# Altium integrated library Vishay Sprague Tantalum Chip Capacitor.IntLib: 116 symbols (part 1 of 2)
Pins are listed as number, name and electrical type; pins without a type are passive.

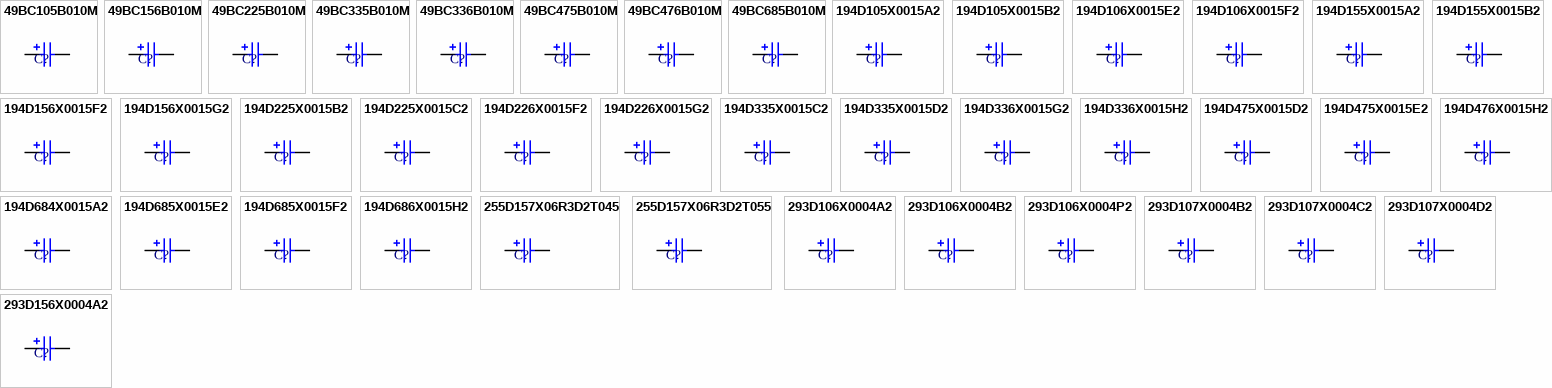
[diagram p0: symbols 49BC105B010M to 293D156X0004A2]

## 49BC105B010M
designator C?
Conformal Coated Solid Tantalum Chip Capacitor: 1.0uF, 20% Tolerance, 10 WVDC @ -55°C to +85°C, Surge = 13V; Note: See Data Sheet for full range of components; Published: 19-Mar-2004; DatasheetDocument: 05-Jul-2002; PackageReference: 49BC-B; Publisher: Altium Limited; ComponentLink1Description: Manufacturer Link; ComponentLink1URL: http://www.vishay.com/; Value: 1.0uF
footprint 49BC-B (Chip Capacitor; Body 2.54 x 1.27 mm (LxW typ))
simulation model CAP (Capacitor)
signal-integrity model 49BC105B010M
pins: 1, 2
1 alternate drawing of the same symbol

## 49BC156B010M
designator C?
Conformal Coated Solid Tantalum Chip Capacitor: 15uF, 20% Tolerance, 10 WVDC @ -55°C to +85°C, Surge = 13V; Note: See Data Sheet for full range of components; Published: 19-Mar-2004; DatasheetDocument: 05-Jul-2002; PackageReference: 49BC-H; Publisher: Altium Limited; ComponentLink1Description: Manufacturer Link; ComponentLink1URL: http://www.vishay.com/; Value: 15uF
footprint 49BC-H (Chip Capacitor; Body 5.59 x 3.43 mm (LxW typ))
simulation model CAP (Capacitor)
signal-integrity model 49BC156B010M
pins: 1, 2
1 alternate drawing of the same symbol

## 49BC225B010M
designator C?
Conformal Coated Solid Tantalum Chip Capacitor: 2.2uF, 20% Tolerance, 10 WVDC @ -55°C to +85°C, Surge = 13V; Note: See Data Sheet for full range of components; Published: 19-Mar-2004; DatasheetDocument: 05-Jul-2002; PackageReference: 49BC-L; Publisher: Altium Limited; ComponentLink1Description: Manufacturer Link; ComponentLink1URL: http://www.vishay.com/; Value: 2.2uF
footprint 49BC-L (Chip Capacitor; Body 3.81 x 1.27 mm (LxW typ))
simulation model CAP (Capacitor)
signal-integrity model 49BC225B010M
pins: 1, 2
1 alternate drawing of the same symbol

## 49BC335B010M
designator C?
Conformal Coated Solid Tantalum Chip Capacitor: 3.3uF, 20% Tolerance, 10 WVDC @ -55°C to +85°C, Surge = 13V; Note: See Data Sheet for full range of components; Published: 19-Mar-2004; DatasheetDocument: 05-Jul-2002; PackageReference: 49BC-U; Publisher: Altium Limited; ComponentLink1Description: Manufacturer Link; ComponentLink1URL: http://www.vishay.com/; Value: 3.3uF
footprint 49BC-U (Chip Capacitor; Body 5.08 x 1.27 mm (LxW typ))
simulation model CAP (Capacitor)
signal-integrity model 49BC335B010M
pins: 1, 2
1 alternate drawing of the same symbol

## 49BC336B010M
designator C?
Conformal Coated Solid Tantalum Chip Capacitor: 33uF, 20% Tolerance, 10 WVDC @ -55°C to +85°C, Surge = 13V; Note: See Data Sheet for full range of components; Published: 19-Mar-2004; DatasheetDocument: 05-Jul-2002; PackageReference: 49BC-I; Publisher: Altium Limited; ComponentLink1Description: Manufacturer Link; ComponentLink1URL: http://www.vishay.com/; Value: 33uF
footprint 49BC-I (Chip Capacitor; Body 6.73 x 2.79 mm (LxW typ))
simulation model CAP (Capacitor)
signal-integrity model 49BC336B010M
pins: 1, 2
1 alternate drawing of the same symbol

## 49BC475B010M
designator C?
Conformal Coated Solid Tantalum Chip Capacitor: 4.7uF, 20% Tolerance, 10 WVDC @ -55°C to +85°C, Surge = 13V; Note: See Data Sheet for full range of components; Published: 19-Mar-2004; DatasheetDocument: 05-Jul-2002; PackageReference: 49BC-E; Publisher: Altium Limited; ComponentLink1Description: Manufacturer Link; ComponentLink1URL: http://www.vishay.com/; Value: 4.7uF
footprint 49BC-E (Chip Capacitor; Body 3.81 x 2.54 mm (LxW typ))
simulation model CAP (Capacitor)
signal-integrity model 49BC475B010M
pins: 1, 2
1 alternate drawing of the same symbol

## 49BC476B010M
designator C?
Conformal Coated Solid Tantalum Chip Capacitor: 47uF, 20% Tolerance, 10 WVDC @ -55°C to +85°C, Surge = 13V; Note: See Data Sheet for full range of components; Published: 19-Mar-2004; DatasheetDocument: 05-Jul-2002; PackageReference: 49BC-P; Publisher: Altium Limited; ComponentLink1Description: Manufacturer Link; ComponentLink1URL: http://www.vishay.com/; Value: 47uF
footprint 49BC-P (Chip Capacitor; Body 7.24 x 3.81 mm (LxW typ))
simulation model CAP (Capacitor)
signal-integrity model 49BC476B010M
pins: 1, 2
1 alternate drawing of the same symbol

## 49BC685B010M
designator C?
Conformal Coated Solid Tantalum Chip Capacitor: 6.8uF, 20% Tolerance, 10 WVDC @ -55°C to +85°C, Surge = 13V; Note: See Data Sheet for full range of components; Published: 19-Mar-2004; DatasheetDocument: 05-Jul-2002; PackageReference: 49BC-C; Publisher: Altium Limited; ComponentLink1Description: Manufacturer Link; ComponentLink1URL: http://www.vishay.com/; Value: 6.8uF
footprint 49BC-C (Chip Capacitor; Body 5.08 x 2.54 mm (LxW typ))
simulation model CAP (Capacitor)
signal-integrity model 49BC685B010M
pins: 1, 2
1 alternate drawing of the same symbol

## 194D105X0015A2
designator C?
Midget Conformal Coated Solid Tantalum Chip Capacitor: 1.0uF, 20% Tolerance, 15 WVDC @ +85°C, Surge = 20V; Note: See Data Sheet for full range of components; Published: 19-Mar-2004; DatasheetDocument: 05-Jul-2002; PackageReference: A; Publisher: Altium Limited; ComponentLink1Description: Manufacturer Link; ComponentLink1URL: http://www.vishay.com/; ComponentLink2Description: Datasheet; ComponentLink2URL: http://www.vishay.com/docs/40000/194d.pdf; Value: 1.0uF
footprint A (Chip Capacitor; Body 2.54 x 1.27 mm (LxW typ))
simulation model CAP (Capacitor)
signal-integrity model 194D105X0015A2
pins: 1, 2
1 alternate drawing of the same symbol

## 194D105X0015B2
designator C?
Midget Conformal Coated Solid Tantalum Chip Capacitor: 1.0uF, 20% Tolerance, 15 WVDC @ +85°C, Surge = 20V; Note: See Data Sheet for full range of components; Published: 19-Mar-2004; DatasheetDocument: 05-Jul-2002; PackageReference: B; Publisher: Altium Limited; ComponentLink1Description: Manufacturer Link; ComponentLink1URL: http://www.vishay.com/; ComponentLink2Description: Datasheet; ComponentLink2URL: http://www.vishay.com/docs/40000/194d.pdf; Value: 1.0uF
footprint B (Chip Capacitor; Body 3.81 x 1.27 mm (LxW typ))
simulation model CAP (Capacitor)
signal-integrity model 194D105X0015B2
pins: 1, 2
1 alternate drawing of the same symbol

## 194D106X0015E2
designator C?
Midget Conformal Coated Solid Tantalum Chip Capacitor: 10uF, 20% Tolerance, 15 WVDC @ +85°C, Surge = 20V; Note: See Data Sheet for full range of components; Published: 19-Mar-2004; DatasheetDocument: 05-Jul-2002; PackageReference: E; Publisher: Altium Limited; ComponentLink1Description: Manufacturer Link; ComponentLink1URL: http://www.vishay.com/; ComponentLink2Description: Datasheet; ComponentLink2URL: http://www.vishay.com/docs/40000/194d.pdf; Value: 10uF
footprint E (Chip Capacitor; Body 5.08 x 2.54 mm (LxW typ))
simulation model CAP (Capacitor)
signal-integrity model 194D106X0015E2
pins: 1, 2
1 alternate drawing of the same symbol

## 194D106X0015F2
designator C?
Midget Conformal Coated Solid Tantalum Chip Capacitor: 10uF, 20% Tolerance, 15 WVDC @ +85°C, Surge = 20V; Note: See Data Sheet for full range of components; Published: 19-Mar-2004; DatasheetDocument: 05-Jul-2002; PackageReference: F; Publisher: Altium Limited; ComponentLink1Description: Manufacturer Link; ComponentLink1URL: http://www.vishay.com/; ComponentLink2Description: Datasheet; ComponentLink2URL: http://www.vishay.com/docs/40000/194d.pdf; Value: 10uF
footprint F (Chip Capacitor; Body 5.59 x 3.43 mm (LxW typ))
simulation model CAP (Capacitor)
signal-integrity model 194D106X0015F2
pins: 1, 2
1 alternate drawing of the same symbol

## 194D155X0015A2
designator C?
Midget Conformal Coated Solid Tantalum Chip Capacitor: 1.5uF, 20% Tolerance, 15 WVDC @ +85°C, Surge = 20V; Note: See Data Sheet for full range of components; Published: 19-Mar-2004; DatasheetDocument: 05-Jul-2002; PackageReference: A; Publisher: Altium Limited; ComponentLink1Description: Manufacturer Link; ComponentLink1URL: http://www.vishay.com/; ComponentLink2Description: Datasheet; ComponentLink2URL: http://www.vishay.com/docs/40000/194d.pdf; Value: 1.5uF
footprint A (Chip Capacitor; Body 2.54 x 1.27 mm (LxW typ))
simulation model CAP (Capacitor)
signal-integrity model 194D155X0015A2
pins: 1, 2
1 alternate drawing of the same symbol

## 194D155X0015B2
designator C?
Midget Conformal Coated Solid Tantalum Chip Capacitor: 1.5uF, 20% Tolerance, 15 WVDC @ +85°C, Surge = 20V; Note: See Data Sheet for full range of components; Published: 19-Mar-2004; DatasheetDocument: 05-Jul-2002; PackageReference: B; Publisher: Altium Limited; ComponentLink1Description: Manufacturer Link; ComponentLink1URL: http://www.vishay.com/; ComponentLink2Description: Datasheet; ComponentLink2URL: http://www.vishay.com/docs/40000/194d.pdf; Value: 1.5uF
footprint B (Chip Capacitor; Body 3.81 x 1.27 mm (LxW typ))
simulation model CAP (Capacitor)
signal-integrity model 194D155X0015B2
pins: 1, 2
1 alternate drawing of the same symbol

## 194D156X0015F2
designator C?
Midget Conformal Coated Solid Tantalum Chip Capacitor: 15uF, 20% Tolerance, 15 WVDC @ +85°C, Surge = 20V; Note: See Data Sheet for full range of components; Published: 19-Mar-2004; DatasheetDocument: 05-Jul-2002; PackageReference: F; Publisher: Altium Limited; ComponentLink1Description: Manufacturer Link; ComponentLink1URL: http://www.vishay.com/; ComponentLink2Description: Datasheet; ComponentLink2URL: http://www.vishay.com/docs/40000/194d.pdf; Value: 15uF
footprint F (Chip Capacitor; Body 5.59 x 3.43 mm (LxW typ))
simulation model CAP (Capacitor)
signal-integrity model 194D156X0015F2
pins: 1, 2
1 alternate drawing of the same symbol

## 194D156X0015G2
designator C?
Midget Conformal Coated Solid Tantalum Chip Capacitor: 15uF, 20% Tolerance, 15 WVDC @ +85°C, Surge = 20V; Note: See Data Sheet for full range of components; Published: 19-Mar-2004; DatasheetDocument: 05-Jul-2002; PackageReference: G; Publisher: Altium Limited; ComponentLink1Description: Manufacturer Link; ComponentLink1URL: http://www.vishay.com/; ComponentLink2Description: Datasheet; ComponentLink2URL: http://www.vishay.com/docs/40000/194d.pdf; Value: 15uF
footprint G (Chip Capacitor; Body 6.73 x 2.79 mm (LxW typ))
simulation model CAP (Capacitor)
signal-integrity model 194D156X0015G2
pins: 1, 2
1 alternate drawing of the same symbol

## 194D225X0015B2
designator C?
Midget Conformal Coated Solid Tantalum Chip Capacitor: 2.2uF, 20% Tolerance, 15 WVDC @ +85°C, Surge = 20V; Note: See Data Sheet for full range of components; Published: 19-Mar-2004; DatasheetDocument: 05-Jul-2002; PackageReference: B; Publisher: Altium Limited; ComponentLink1Description: Manufacturer Link; ComponentLink1URL: http://www.vishay.com/; ComponentLink2Description: Datasheet; ComponentLink2URL: http://www.vishay.com/docs/40000/194d.pdf; Value: 2.2uF
footprint B (Chip Capacitor; Body 3.81 x 1.27 mm (LxW typ))
simulation model CAP (Capacitor)
signal-integrity model 194D225X0015B2
pins: 1, 2
1 alternate drawing of the same symbol

## 194D225X0015C2
designator C?
Midget Conformal Coated Solid Tantalum Chip Capacitor: 2.2uF, 20% Tolerance, 15 WVDC @ +85°C, Surge = 20V; Note: See Data Sheet for full range of components; Published: 19-Mar-2004; DatasheetDocument: 05-Jul-2002; PackageReference: C; Publisher: Altium Limited; ComponentLink1Description: Manufacturer Link; ComponentLink1URL: http://www.vishay.com/; ComponentLink2Description: Datasheet; ComponentLink2URL: http://www.vishay.com/docs/40000/194d.pdf; Value: 2.2uF
footprint C (Chip Capacitor; Body 5.08 x 1.27 mm (LxW typ))
simulation model CAP (Capacitor)
signal-integrity model 194D225X0015C2
pins: 1, 2
1 alternate drawing of the same symbol

## 194D226X0015F2
designator C?
Midget Conformal Coated Solid Tantalum Chip Capacitor: 22uF, 20% Tolerance, 15 WVDC @ +85°C, Surge = 20V; Note: See Data Sheet for full range of components; Published: 19-Mar-2004; DatasheetDocument: 05-Jul-2002; PackageReference: F; Publisher: Altium Limited; ComponentLink1Description: Manufacturer Link; ComponentLink1URL: http://www.vishay.com/; ComponentLink2Description: Datasheet; ComponentLink2URL: http://www.vishay.com/docs/40000/194d.pdf; Value: 22uF
footprint F (Chip Capacitor; Body 5.59 x 3.43 mm (LxW typ))
simulation model CAP (Capacitor)
signal-integrity model 194D226X0015F2
pins: 1, 2
1 alternate drawing of the same symbol

## 194D226X0015G2
designator C?
Midget Conformal Coated Solid Tantalum Chip Capacitor: 22uF, 20% Tolerance, 15 WVDC @ +85°C, Surge = 20V; Note: See Data Sheet for full range of components; Published: 19-Mar-2004; DatasheetDocument: 05-Jul-2002; PackageReference: G; Publisher: Altium Limited; ComponentLink1Description: Manufacturer Link; ComponentLink1URL: http://www.vishay.com/; ComponentLink2Description: Datasheet; ComponentLink2URL: http://www.vishay.com/docs/40000/194d.pdf; Value: 22uF
footprint G (Chip Capacitor; Body 6.73 x 2.79 mm (LxW typ))
simulation model CAP (Capacitor)
signal-integrity model 194D226X0015G2
pins: 1, 2
1 alternate drawing of the same symbol

## 194D335X0015C2
designator C?
Midget Conformal Coated Solid Tantalum Chip Capacitor: 3.3uF, 20% Tolerance, 15 WVDC @ +85°C, Surge = 20V; Note: See Data Sheet for full range of components; Published: 19-Mar-2004; DatasheetDocument: 05-Jul-2002; PackageReference: C; Publisher: Altium Limited; ComponentLink1Description: Manufacturer Link; ComponentLink1URL: http://www.vishay.com/; ComponentLink2Description: Datasheet; ComponentLink2URL: http://www.vishay.com/docs/40000/194d.pdf; Value: 3.3uF
footprint C (Chip Capacitor; Body 5.08 x 1.27 mm (LxW typ))
simulation model CAP (Capacitor)
signal-integrity model 194D335X0015C2
pins: 1, 2
1 alternate drawing of the same symbol

## 194D335X0015D2
designator C?
Midget Conformal Coated Solid Tantalum Chip Capacitor: 3.3uF, 20% Tolerance, 15 WVDC @ +85°C, Surge = 20V; Note: See Data Sheet for full range of components; Published: 19-Mar-2004; DatasheetDocument: 05-Jul-2002; PackageReference: D; Publisher: Altium Limited; ComponentLink1Description: Manufacturer Link; ComponentLink1URL: http://www.vishay.com/; ComponentLink2Description: Datasheet; ComponentLink2URL: http://www.vishay.com/docs/40000/194d.pdf; Value: 3.3uF
footprint D (Chip Capacitor; Body 3.81 x 2.54 mm (LxW typ))
simulation model CAP (Capacitor)
signal-integrity model 194D335X0015D2
pins: 1, 2
1 alternate drawing of the same symbol

## 194D336X0015G2
designator C?
Midget Conformal Coated Solid Tantalum Chip Capacitor: 33uF, 20% Tolerance, 15 WVDC @ +85°C, Surge = 20V; Note: See Data Sheet for full range of components; Published: 19-Mar-2004; DatasheetDocument: 05-Jul-2002; PackageReference: G; Publisher: Altium Limited; ComponentLink1Description: Manufacturer Link; ComponentLink1URL: http://www.vishay.com/; ComponentLink2Description: Datasheet; ComponentLink2URL: http://www.vishay.com/docs/40000/194d.pdf; Value: 33uF
footprint G (Chip Capacitor; Body 6.73 x 2.79 mm (LxW typ))
simulation model CAP (Capacitor)
signal-integrity model 194D336X0015G2
pins: 1, 2
1 alternate drawing of the same symbol

## 194D336X0015H2
designator C?
Midget Conformal Coated Solid Tantalum Chip Capacitor: 33uF, 20% Tolerance, 15 WVDC @ +85°C, Surge = 20V; Note: See Data Sheet for full range of components; Published: 19-Mar-2004; DatasheetDocument: 05-Jul-2002; PackageReference: H; Publisher: Altium Limited; ComponentLink1Description: Manufacturer Link; ComponentLink1URL: http://www.vishay.com/; ComponentLink2Description: Datasheet; ComponentLink2URL: http://www.vishay.com/docs/40000/194d.pdf; Value: 33uF
footprint H (Chip Capacitor; Body 7.24 x 3.81 mm (LxW typ))
simulation model CAP (Capacitor)
signal-integrity model 194D336X0015H2
pins: 1, 2
1 alternate drawing of the same symbol

## 194D475X0015D2
designator C?
Midget Conformal Coated Solid Tantalum Chip Capacitor: 4.7uF, 20% Tolerance, 15 WVDC @ +85°C, Surge = 20V; Note: See Data Sheet for full range of components; Published: 19-Mar-2004; DatasheetDocument: 05-Jul-2002; PackageReference: D; Publisher: Altium Limited; ComponentLink1Description: Manufacturer Link; ComponentLink1URL: http://www.vishay.com/; ComponentLink2Description: Datasheet; ComponentLink2URL: http://www.vishay.com/docs/40000/194d.pdf; Value: 4.7uF
footprint D (Chip Capacitor; Body 3.81 x 2.54 mm (LxW typ))
simulation model CAP (Capacitor)
signal-integrity model 194D475X0015D2
pins: 1, 2
1 alternate drawing of the same symbol

## 194D475X0015E2
designator C?
Midget Conformal Coated Solid Tantalum Chip Capacitor: 4.7uF, 20% Tolerance, 15 WVDC @ +85°C, Surge = 20V; Note: See Data Sheet for full range of components; Published: 19-Mar-2004; DatasheetDocument: 05-Jul-2002; PackageReference: E; Publisher: Altium Limited; ComponentLink1Description: Manufacturer Link; ComponentLink1URL: http://www.vishay.com/; ComponentLink2Description: Datasheet; ComponentLink2URL: http://www.vishay.com/docs/40000/194d.pdf; Value: 4.7uF
footprint E (Chip Capacitor; Body 5.08 x 2.54 mm (LxW typ))
simulation model CAP (Capacitor)
signal-integrity model 194D475X0015E2
pins: 1, 2
1 alternate drawing of the same symbol

## 194D476X0015H2
designator C?
Midget Conformal Coated Solid Tantalum Chip Capacitor: 47uF, 20% Tolerance, 15 WVDC @ +85°C, Surge = 20V; Note: See Data Sheet for full range of components; Published: 19-Mar-2004; DatasheetDocument: 05-Jul-2002; PackageReference: H; Publisher: Altium Limited; ComponentLink1Description: Manufacturer Link; ComponentLink1URL: http://www.vishay.com/; ComponentLink2Description: Datasheet; ComponentLink2URL: http://www.vishay.com/docs/40000/194d.pdf; Value: 47uF
footprint H (Chip Capacitor; Body 7.24 x 3.81 mm (LxW typ))
simulation model CAP (Capacitor)
signal-integrity model 194D476X0015H2
pins: 1, 2
1 alternate drawing of the same symbol

## 194D684X0015A2
designator C?
Midget Conformal Coated Solid Tantalum Chip Capacitor: 0.68uF, 20% Tolerance, 15 WVDC @ +85°C, Surge = 20V; Note: See Data Sheet for full range of components; Published: 19-Mar-2004; DatasheetDocument: 05-Jul-2002; PackageReference: A; Publisher: Altium Limited; ComponentLink1Description: Manufacturer Link; ComponentLink1URL: http://www.vishay.com/; ComponentLink2Description: Datasheet; ComponentLink2URL: http://www.vishay.com/docs/40000/194d.pdf; Value: 0.68uF
footprint A (Chip Capacitor; Body 2.54 x 1.27 mm (LxW typ))
simulation model CAP (Capacitor)
signal-integrity model 194D684X0015A2
pins: 1, 2
1 alternate drawing of the same symbol

## 194D685X0015E2
designator C?
Midget Conformal Coated Solid Tantalum Chip Capacitor: 6.8uF, 20% Tolerance, 15 WVDC @ +85°C, Surge = 20V; Note: See Data Sheet for full range of components; Published: 19-Mar-2004; DatasheetDocument: 05-Jul-2002; PackageReference: E; Publisher: Altium Limited; ComponentLink1Description: Manufacturer Link; ComponentLink1URL: http://www.vishay.com/; ComponentLink2Description: Datasheet; ComponentLink2URL: http://www.vishay.com/docs/40000/194d.pdf; Value: 6.8uF
footprint E (Chip Capacitor; Body 5.08 x 2.54 mm (LxW typ))
simulation model CAP (Capacitor)
signal-integrity model 194D685X0015E2
pins: 1, 2
1 alternate drawing of the same symbol

## 194D685X0015F2
designator C?
Midget Conformal Coated Solid Tantalum Chip Capacitor: 6.8uF, 20% Tolerance, 15 WVDC @ +85°C, Surge = 20V; Note: See Data Sheet for full range of components; Published: 19-Mar-2004; DatasheetDocument: 05-Jul-2002; PackageReference: F; Publisher: Altium Limited; ComponentLink1Description: Manufacturer Link; ComponentLink1URL: http://www.vishay.com/; ComponentLink2Description: Datasheet; ComponentLink2URL: http://www.vishay.com/docs/40000/194d.pdf; Value: 6.8uF
footprint F (Chip Capacitor; Body 5.59 x 3.43 mm (LxW typ))
simulation model CAP (Capacitor)
signal-integrity model 194D685X0015F2
pins: 1, 2
1 alternate drawing of the same symbol

## 194D686X0015H2
designator C?
Midget Conformal Coated Solid Tantalum Chip Capacitor: 68uF, 20% Tolerance, 15 WVDC @ +85°C, Surge = 20V; Note: See Data Sheet for full range of components; Published: 19-Mar-2004; DatasheetDocument: 05-Jul-2002; PackageReference: H; Publisher: Altium Limited; ComponentLink1Description: Manufacturer Link; ComponentLink1URL: http://www.vishay.com/; ComponentLink2Description: Datasheet; ComponentLink2URL: http://www.vishay.com/docs/40000/194d.pdf; Value: 68uF
footprint H (Chip Capacitor; Body 7.24 x 3.81 mm (LxW typ))
simulation model CAP (Capacitor)
signal-integrity model 194D686X0015H2
pins: 1, 2
1 alternate drawing of the same symbol

## 255D157X06R3D2T045
designator C?
Organic Polymer, Low ESR, Tantalum Capacitor: 150uF, 20% Tolerance, 6.3 WVDC @ +85°C; Note: See Data Sheet for full range of components; Published: 19-Mar-2004; DatasheetDocument: 04-Feb-2003; PackageReference: 7343; Publisher: Altium Limited; Code_JEITA: 7343; ComponentLink1Description: Manufacturer Link; ComponentLink1URL: http://www.vishay.com/; ComponentLink2Description: Datasheet; ComponentLink2URL: http://www.vishay.com/docs/40052/255d.pdf; Value: 150uF
footprint 7343 (Capacitor, SM Tantalum; Body 7.3 x 4.3 mm (LxW typ))
simulation model CAP (Capacitor)
signal-integrity model 255D157X06R3D2T045
pins: 1, 2
1 alternate drawing of the same symbol

## 255D157X06R3D2T055
designator C?
Organic Polymer, Low ESR, Tantalum Capacitor: 150uF, 20% Tolerance, 6.3 WVDC @ +85°C; Note: See Data Sheet for full range of components; Published: 19-Mar-2004; DatasheetDocument: 04-Feb-2003; PackageReference: 7343; Publisher: Altium Limited; Code_JEITA: 7343; ComponentLink1Description: Manufacturer Link; ComponentLink1URL: http://www.vishay.com/; ComponentLink2Description: Datasheet; ComponentLink2URL: http://www.vishay.com/docs/40052/255d.pdf; Value: 150uF
footprint 7343 (Capacitor, SM Tantalum; Body 7.3 x 4.3 mm (LxW typ))
simulation model CAP (Capacitor)
signal-integrity model 255D157X06R3D2T055
pins: 1, 2
1 alternate drawing of the same symbol

## 293D106X0004A2
designator C?
Tantamount Commercial, Surface Mount Solid Tantalum Chip Capacitor: 10uF, 20% Tolerance, 4 WVDC @ +85°C, Surge = 5.2V; Note: See Data Sheet for full range of components; Published: 19-Mar-2004; DatasheetDocument: 05-Feb-2003; PackageReference: 3216; Publisher: Altium Limited; Code_JEITA: 3216; ComponentLink1Description: Manufacturer Link; ComponentLink1URL: http://www.vishay.com/; ComponentLink2Description: Datasheet; ComponentLink2URL: http://www.vishay.com/docs/40002/293d.pdf; Value: 10uF
footprint 3216 (Capacitor, SM Tantalum; Body 3.2 x 1.6 mm (LxW typ))
simulation model CAP (Capacitor)
signal-integrity model 293D106X0004A2
pins: 1, 2
1 alternate drawing of the same symbol

## 293D106X0004B2
designator C?
Tantamount Commercial, Surface Mount Solid Tantalum Chip Capacitor: 10uF, 20% Tolerance, 4 WVDC @ +85°C, Surge = 5.2V; Note: See Data Sheet for full range of components; Published: 19-Mar-2004; DatasheetDocument: 05-Feb-2003; PackageReference: 3528; Publisher: Altium Limited; Code_JEITA: 3528; ComponentLink1Description: Manufacturer Link; ComponentLink1URL: http://www.vishay.com/; ComponentLink2Description: Datasheet; ComponentLink2URL: http://www.vishay.com/docs/40002/293d.pdf; Value: 10uF
footprint 3528 (Capacitor, SM Tantalum; Body 3.5 x 2.8 mm (LxW typ))
simulation model CAP (Capacitor)
signal-integrity model 293D106X0004B2
pins: 1, 2
1 alternate drawing of the same symbol

## 293D106X0004P2
designator C?
Tantamount Commercial, Surface Mount Solid Tantalum Chip Capacitor: 10uF, 20% Tolerance, 4 WVDC @ +85°C, Surge = 5.2V; Note: See Data Sheet for full range of components; Published: 19-Mar-2004; DatasheetDocument: 05-Feb-2003; PackageReference: 2012; Publisher: Altium Limited; Code_JEITA: 2012; ComponentLink1Description: Manufacturer Link; ComponentLink1URL: http://www.vishay.com/; ComponentLink2Description: Datasheet; ComponentLink2URL: http://www.vishay.com/docs/40002/293d.pdf; Value: 10uF
footprint 2012 (Capacitor, SM Tantalum; Body 2.0 x 1.25 mm (LxW typ))
simulation model CAP (Capacitor)
signal-integrity model 293D106X0004P2
pins: 1, 2
1 alternate drawing of the same symbol

## 293D107X0004B2
designator C?
Tantamount Commercial, Surface Mount Solid Tantalum Chip Capacitor: 100uF, 20% Tolerance, 4 WVDC @ +85°C, Surge = 5.2V; Note: See Data Sheet for full range of components; Published: 19-Mar-2004; DatasheetDocument: 05-Feb-2003; PackageReference: 3528; Publisher: Altium Limited; Code_JEITA: 3528; ComponentLink1Description: Manufacturer Link; ComponentLink1URL: http://www.vishay.com/; ComponentLink2Description: Datasheet; ComponentLink2URL: http://www.vishay.com/docs/40002/293d.pdf; Value: 100uF
footprint 3528 (Capacitor, SM Tantalum; Body 3.5 x 2.8 mm (LxW typ))
simulation model CAP (Capacitor)
signal-integrity model 293D107X0004B2
pins: 1, 2
1 alternate drawing of the same symbol

## 293D107X0004C2
designator C?
Tantamount Commercial, Surface Mount Solid Tantalum Chip Capacitor: 100uF, 20% Tolerance, 4 WVDC @ +85°C, Surge = 5.2V; Note: See Data Sheet for full range of components; Published: 19-Mar-2004; DatasheetDocument: 05-Feb-2003; PackageReference: 6032; Publisher: Altium Limited; Code_JEITA: 6032; ComponentLink1Description: Manufacturer Link; ComponentLink1URL: http://www.vishay.com/; ComponentLink2Description: Datasheet; ComponentLink2URL: http://www.vishay.com/docs/40002/293d.pdf; Value: 100uF
footprint 6032 (Capacitor, SM Tantalum; Body 6.0 x 3.2 mm (LxW typ))
simulation model CAP (Capacitor)
signal-integrity model 293D107X0004C2
pins: 1, 2
1 alternate drawing of the same symbol

## 293D107X0004D2
designator C?
Tantamount Commercial, Surface Mount Solid Tantalum Chip Capacitor: 100uF, 20% Tolerance, 4 WVDC @ +85°C, Surge = 5.2V; Note: See Data Sheet for full range of components; Published: 19-Mar-2004; DatasheetDocument: 05-Feb-2003; PackageReference: 7343; Publisher: Altium Limited; Code_JEITA: 7343; ComponentLink1Description: Manufacturer Link; ComponentLink1URL: http://www.vishay.com/; ComponentLink2Description: Datasheet; ComponentLink2URL: http://www.vishay.com/docs/40002/293d.pdf; Value: 100uF
footprint 7343 (Capacitor, SM Tantalum; Body 7.3 x 4.3 mm (LxW typ))
simulation model CAP (Capacitor)
signal-integrity model 293D107X0004D2
pins: 1, 2
1 alternate drawing of the same symbol

## 293D156X0004A2
designator C?
Tantamount Commercial, Surface Mount Solid Tantalum Chip Capacitor: 15uF, 20% Tolerance, 4 WVDC @ +85°C, Surge = 5.2V; Note: See Data Sheet for full range of components; Published: 19-Mar-2004; DatasheetDocument: 05-Feb-2003; PackageReference: 3216; Publisher: Altium Limited; Code_JEITA: 3216; ComponentLink1Description: Manufacturer Link; ComponentLink1URL: http://www.vishay.com/; ComponentLink2Description: Datasheet; ComponentLink2URL: http://www.vishay.com/docs/40002/293d.pdf; Value: 15uF
footprint 3216 (Capacitor, SM Tantalum; Body 3.2 x 1.6 mm (LxW typ))
simulation model CAP (Capacitor)
signal-integrity model 293D156X0004A2
pins: 1, 2
1 alternate drawing of the same symbol

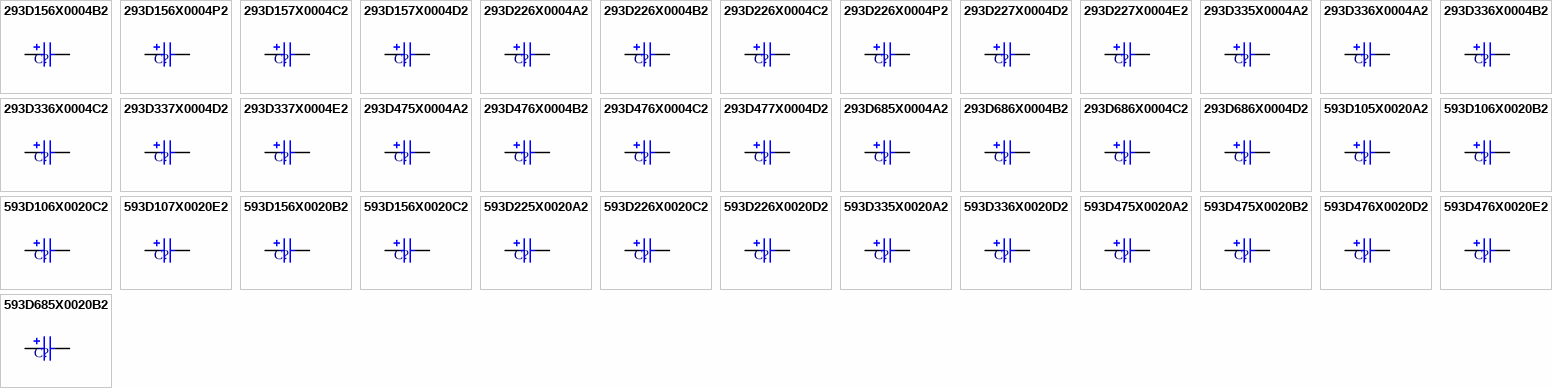
[diagram p1: symbols 293D156X0004B2 to 593D685X0020B2]

## 293D156X0004B2
designator C?
Tantamount Commercial, Surface Mount Solid Tantalum Chip Capacitor: 15uF, 20% Tolerance, 4 WVDC @ +85°C, Surge = 5.2V; Note: See Data Sheet for full range of components; Published: 19-Mar-2004; DatasheetDocument: 05-Feb-2003; PackageReference: 3528; Publisher: Altium Limited; Code_JEITA: 3528; ComponentLink1Description: Manufacturer Link; ComponentLink1URL: http://www.vishay.com/; ComponentLink2Description: Datasheet; ComponentLink2URL: http://www.vishay.com/docs/40002/293d.pdf; Value: 15uF
footprint 3528 (Capacitor, SM Tantalum; Body 3.5 x 2.8 mm (LxW typ))
simulation model CAP (Capacitor)
signal-integrity model 293D156X0004B2
pins: 1, 2
1 alternate drawing of the same symbol

## 293D156X0004P2
designator C?
Tantamount Commercial, Surface Mount Solid Tantalum Chip Capacitor: 15uF, 20% Tolerance, 4 WVDC @ +85°C, Surge = 5.2V; Note: See Data Sheet for full range of components; Published: 19-Mar-2004; DatasheetDocument: 05-Feb-2003; PackageReference: 2012; Publisher: Altium Limited; Code_JEITA: 2012; ComponentLink1Description: Manufacturer Link; ComponentLink1URL: http://www.vishay.com/; ComponentLink2Description: Datasheet; ComponentLink2URL: http://www.vishay.com/docs/40002/293d.pdf; Value: 15uF
footprint 2012 (Capacitor, SM Tantalum; Body 2.0 x 1.25 mm (LxW typ))
simulation model CAP (Capacitor)
signal-integrity model 293D156X0004P2
pins: 1, 2
1 alternate drawing of the same symbol

## 293D157X0004C2
designator C?
Tantamount Commercial, Surface Mount Solid Tantalum Chip Capacitor: 150uF, 20% Tolerance, 4 WVDC @ +85°C, Surge = 5.2V; Note: See Data Sheet for full range of components; Published: 19-Mar-2004; DatasheetDocument: 05-Feb-2003; PackageReference: 6032; Publisher: Altium Limited; Code_JEITA: 6032; ComponentLink1Description: Manufacturer Link; ComponentLink1URL: http://www.vishay.com/; ComponentLink2Description: Datasheet; ComponentLink2URL: http://www.vishay.com/docs/40002/293d.pdf; Value: 150uF
footprint 6032 (Capacitor, SM Tantalum; Body 6.0 x 3.2 mm (LxW typ))
simulation model CAP (Capacitor)
signal-integrity model 293D157X0004C2
pins: 1, 2
1 alternate drawing of the same symbol

## 293D157X0004D2
designator C?
Tantamount Commercial, Surface Mount Solid Tantalum Chip Capacitor: 150uF, 20% Tolerance, 4 WVDC @ +85°C, Surge = 5.2V; Note: See Data Sheet for full range of components; Published: 19-Mar-2004; DatasheetDocument: 05-Feb-2003; PackageReference: 7343; Publisher: Altium Limited; Code_JEITA: 7343; ComponentLink1Description: Manufacturer Link; ComponentLink1URL: http://www.vishay.com/; ComponentLink2Description: Datasheet; ComponentLink2URL: http://www.vishay.com/docs/40002/293d.pdf; Value: 150uF
footprint 7343 (Capacitor, SM Tantalum; Body 7.3 x 4.3 mm (LxW typ))
simulation model CAP (Capacitor)
signal-integrity model 293D157X0004D2
pins: 1, 2
1 alternate drawing of the same symbol

## 293D226X0004A2
designator C?
Tantamount Commercial, Surface Mount Solid Tantalum Chip Capacitor: 22uF, 20% Tolerance, 4 WVDC @ +85°C, Surge = 5.2V; Note: See Data Sheet for full range of components; Published: 19-Mar-2004; DatasheetDocument: 05-Feb-2003; PackageReference: 3216; Publisher: Altium Limited; Code_JEITA: 3216; ComponentLink1Description: Manufacturer Link; ComponentLink1URL: http://www.vishay.com/; ComponentLink2Description: Datasheet; ComponentLink2URL: http://www.vishay.com/docs/40002/293d.pdf; Value: 22uF
footprint 3216 (Capacitor, SM Tantalum; Body 3.2 x 1.6 mm (LxW typ))
simulation model CAP (Capacitor)
signal-integrity model 293D226X0004A2
pins: 1, 2
1 alternate drawing of the same symbol

## 293D226X0004B2
designator C?
Tantamount Commercial, Surface Mount Solid Tantalum Chip Capacitor: 22uF, 20% Tolerance, 4 WVDC @ +85°C, Surge = 5.2V; Note: See Data Sheet for full range of components; Published: 19-Mar-2004; DatasheetDocument: 05-Feb-2003; PackageReference: 3528; Publisher: Altium Limited; Code_JEITA: 3528; ComponentLink1Description: Manufacturer Link; ComponentLink1URL: http://www.vishay.com/; ComponentLink2Description: Datasheet; ComponentLink2URL: http://www.vishay.com/docs/40002/293d.pdf; Value: 22uF
footprint 3528 (Capacitor, SM Tantalum; Body 3.5 x 2.8 mm (LxW typ))
simulation model CAP (Capacitor)
signal-integrity model 293D226X0004B2
pins: 1, 2
1 alternate drawing of the same symbol

## 293D226X0004C2
designator C?
Tantamount Commercial, Surface Mount Solid Tantalum Chip Capacitor: 22uF, 20% Tolerance, 4 WVDC @ +85°C, Surge = 5.2V; Note: See Data Sheet for full range of components; Published: 19-Mar-2004; DatasheetDocument: 05-Feb-2003; PackageReference: 6032; Publisher: Altium Limited; Code_JEITA: 6032; ComponentLink1Description: Manufacturer Link; ComponentLink1URL: http://www.vishay.com/; ComponentLink2Description: Datasheet; ComponentLink2URL: http://www.vishay.com/docs/40002/293d.pdf; Value: 22uF
footprint 6032 (Capacitor, SM Tantalum; Body 6.0 x 3.2 mm (LxW typ))
simulation model CAP (Capacitor)
signal-integrity model 293D226X0004C2
pins: 1, 2
1 alternate drawing of the same symbol

## 293D226X0004P2
designator C?
Tantamount Commercial, Surface Mount Solid Tantalum Chip Capacitor: 22uF, 20% Tolerance, 4 WVDC @ +85°C, Surge = 5.2V; Note: See Data Sheet for full range of components; Published: 19-Mar-2004; DatasheetDocument: 05-Feb-2003; PackageReference: 2012; Publisher: Altium Limited; Code_JEITA: 2012; ComponentLink1Description: Manufacturer Link; ComponentLink1URL: http://www.vishay.com/; ComponentLink2Description: Datasheet; ComponentLink2URL: http://www.vishay.com/docs/40002/293d.pdf; Value: 22uF
footprint 2012 (Capacitor, SM Tantalum; Body 2.0 x 1.25 mm (LxW typ))
simulation model CAP (Capacitor)
signal-integrity model 293D226X0004P2
pins: 1, 2
1 alternate drawing of the same symbol

## 293D227X0004D2
designator C?
Tantamount Commercial, Surface Mount Solid Tantalum Chip Capacitor: 220uF, 20% Tolerance, 4 WVDC @ +85°C, Surge = 5.2V; Note: See Data Sheet for full range of components; Published: 19-Mar-2004; DatasheetDocument: 05-Feb-2003; PackageReference: 7343; Publisher: Altium Limited; Code_JEITA: 7343; ComponentLink1Description: Manufacturer Link; ComponentLink1URL: http://www.vishay.com/; ComponentLink2Description: Datasheet; ComponentLink2URL: http://www.vishay.com/docs/40002/293d.pdf; Value: 220uF
footprint 7343 (Capacitor, SM Tantalum; Body 7.3 x 4.3 mm (LxW typ))
simulation model CAP (Capacitor)
signal-integrity model 293D227X0004D2
pins: 1, 2
1 alternate drawing of the same symbol

## 293D227X0004E2
designator C?
Tantamount Commercial, Surface Mount Solid Tantalum Chip Capacitor: 220uF, 20% Tolerance, 4 WVDC @ +85°C, Surge = 5.2V; Note: See Data Sheet for full range of components; Published: 19-Mar-2004; DatasheetDocument: 05-Feb-2003; PackageReference: 7343H; Publisher: Altium Limited; Code_JEITA: 7343H; ComponentLink1Description: Manufacturer Link; ComponentLink1URL: http://www.vishay.com/; ComponentLink2Description: Datasheet; ComponentLink2URL: http://www.vishay.com/docs/40002/293d.pdf; Value: 220uF
footprint 7343H (Capacitor, SM Tantalum; Body 7.3 x 4.3 mm (LxW typ))
simulation model CAP (Capacitor)
signal-integrity model 293D227X0004E2
pins: 1, 2
1 alternate drawing of the same symbol

## 293D335X0004A2
designator C?
Tantamount Commercial, Surface Mount Solid Tantalum Chip Capacitor: 3.3uF, 20% Tolerance, 4 WVDC @ +85°C, Surge = 5.2V; Note: See Data Sheet for full range of components; Published: 19-Mar-2004; DatasheetDocument: 05-Feb-2003; PackageReference: 3216; Publisher: Altium Limited; Code_JEITA: 3216; ComponentLink1Description: Manufacturer Link; ComponentLink1URL: http://www.vishay.com/; ComponentLink2Description: Datasheet; ComponentLink2URL: http://www.vishay.com/docs/40002/293d.pdf; Value: 3.3uF
footprint 3216 (Capacitor, SM Tantalum; Body 3.2 x 1.6 mm (LxW typ))
simulation model CAP (Capacitor)
signal-integrity model 293D335X0004A2
pins: 1, 2
1 alternate drawing of the same symbol

## 293D336X0004A2
designator C?
Tantamount Commercial, Surface Mount Solid Tantalum Chip Capacitor: 33uF, 20% Tolerance, 4 WVDC @ +85°C, Surge = 5.2V; Note: See Data Sheet for full range of components; Published: 19-Mar-2004; DatasheetDocument: 05-Feb-2003; PackageReference: 3216; Publisher: Altium Limited; Code_JEITA: 3216; ComponentLink1Description: Manufacturer Link; ComponentLink1URL: http://www.vishay.com/; ComponentLink2Description: Datasheet; ComponentLink2URL: http://www.vishay.com/docs/40002/293d.pdf; Value: 33uF
footprint 3216 (Capacitor, SM Tantalum; Body 3.2 x 1.6 mm (LxW typ))
simulation model CAP (Capacitor)
signal-integrity model 293D336X0004A2
pins: 1, 2
1 alternate drawing of the same symbol

## 293D336X0004B2
designator C?
Tantamount Commercial, Surface Mount Solid Tantalum Chip Capacitor: 33uF, 20% Tolerance, 4 WVDC @ +85°C, Surge = 5.2V; Note: See Data Sheet for full range of components; Published: 19-Mar-2004; DatasheetDocument: 05-Feb-2003; PackageReference: 3528; Publisher: Altium Limited; Code_JEITA: 3528; ComponentLink1Description: Manufacturer Link; ComponentLink1URL: http://www.vishay.com/; ComponentLink2Description: Datasheet; ComponentLink2URL: http://www.vishay.com/docs/40002/293d.pdf; Value: 33uF
footprint 3528 (Capacitor, SM Tantalum; Body 3.5 x 2.8 mm (LxW typ))
simulation model CAP (Capacitor)
signal-integrity model 293D336X0004B2
pins: 1, 2
1 alternate drawing of the same symbol

## 293D336X0004C2
designator C?
Tantamount Commercial, Surface Mount Solid Tantalum Chip Capacitor: 33uF, 20% Tolerance, 4 WVDC @ +85°C, Surge = 5.2V; Note: See Data Sheet for full range of components; Published: 19-Mar-2004; DatasheetDocument: 05-Feb-2003; PackageReference: 6032; Publisher: Altium Limited; Code_JEITA: 6032; ComponentLink1Description: Manufacturer Link; ComponentLink1URL: http://www.vishay.com/; ComponentLink2Description: Datasheet; ComponentLink2URL: http://www.vishay.com/docs/40002/293d.pdf; Value: 33uF
footprint 6032 (Capacitor, SM Tantalum; Body 6.0 x 3.2 mm (LxW typ))
simulation model CAP (Capacitor)
signal-integrity model 293D336X0004C2
pins: 1, 2
1 alternate drawing of the same symbol

## 293D337X0004D2
designator C?
Tantamount Commercial, Surface Mount Solid Tantalum Chip Capacitor: 330uF, 20% Tolerance, 4 WVDC @ +85°C, Surge = 5.2V; Note: See Data Sheet for full range of components; Published: 19-Mar-2004; DatasheetDocument: 05-Feb-2003; PackageReference: 7343; Publisher: Altium Limited; Code_JEITA: 7343; ComponentLink1Description: Manufacturer Link; ComponentLink1URL: http://www.vishay.com/; ComponentLink2Description: Datasheet; ComponentLink2URL: http://www.vishay.com/docs/40002/293d.pdf; Value: 330uF
footprint 7343 (Capacitor, SM Tantalum; Body 7.3 x 4.3 mm (LxW typ))
simulation model CAP (Capacitor)
signal-integrity model 293D337X0004D2
pins: 1, 2
1 alternate drawing of the same symbol

## 293D337X0004E2
designator C?
Tantamount Commercial, Surface Mount Solid Tantalum Chip Capacitor: 330uF, 20% Tolerance, 4 WVDC @ +85°C, Surge = 5.2V; Note: See Data Sheet for full range of components; Published: 19-Mar-2004; DatasheetDocument: 05-Feb-2003; PackageReference: 7343H; Publisher: Altium Limited; Code_JEITA: 7343H; ComponentLink1Description: Manufacturer Link; ComponentLink1URL: http://www.vishay.com/; ComponentLink2Description: Datasheet; ComponentLink2URL: http://www.vishay.com/docs/40002/293d.pdf; Value: 330uF
footprint 7343H (Capacitor, SM Tantalum; Body 7.3 x 4.3 mm (LxW typ))
simulation model CAP (Capacitor)
signal-integrity model 293D337X0004E2
pins: 1, 2
1 alternate drawing of the same symbol

## 293D475X0004A2
designator C?
Tantamount Commercial, Surface Mount Solid Tantalum Chip Capacitor: 4.7uF, 20% Tolerance, 4 WVDC @ +85°C, Surge = 5.2V; Note: See Data Sheet for full range of components; Published: 19-Mar-2004; DatasheetDocument: 05-Feb-2003; PackageReference: 3216; Publisher: Altium Limited; Code_JEITA: 3216; ComponentLink1Description: Manufacturer Link; ComponentLink1URL: http://www.vishay.com/; ComponentLink2Description: Datasheet; ComponentLink2URL: http://www.vishay.com/docs/40002/293d.pdf; Value: 4.7uF
footprint 3216 (Capacitor, SM Tantalum; Body 3.2 x 1.6 mm (LxW typ))
simulation model CAP (Capacitor)
signal-integrity model 293D475X0004A2
pins: 1, 2
1 alternate drawing of the same symbol

## 293D476X0004B2
designator C?
Tantamount Commercial, Surface Mount Solid Tantalum Chip Capacitor: 47uF, 20% Tolerance, 4 WVDC @ +85°C, Surge = 5.2V; Note: See Data Sheet for full range of components; Published: 19-Mar-2004; DatasheetDocument: 05-Feb-2003; PackageReference: 3528; Publisher: Altium Limited; Code_JEITA: 3528; ComponentLink1Description: Manufacturer Link; ComponentLink1URL: http://www.vishay.com/; ComponentLink2Description: Datasheet; ComponentLink2URL: http://www.vishay.com/docs/40002/293d.pdf; Value: 47uF
footprint 3528 (Capacitor, SM Tantalum; Body 3.5 x 2.8 mm (LxW typ))
simulation model CAP (Capacitor)
signal-integrity model 293D476X0004B2
pins: 1, 2
1 alternate drawing of the same symbol

## 293D476X0004C2
designator C?
Tantamount Commercial, Surface Mount Solid Tantalum Chip Capacitor: 47uF, 20% Tolerance, 4 WVDC @ +85°C, Surge = 5.2V; Note: See Data Sheet for full range of components; Published: 19-Mar-2004; DatasheetDocument: 05-Feb-2003; PackageReference: 6032; Publisher: Altium Limited; Code_JEITA: 6032; ComponentLink1Description: Manufacturer Link; ComponentLink1URL: http://www.vishay.com/; ComponentLink2Description: Datasheet; ComponentLink2URL: http://www.vishay.com/docs/40002/293d.pdf; Value: 47uF
footprint 6032 (Capacitor, SM Tantalum; Body 6.0 x 3.2 mm (LxW typ))
simulation model CAP (Capacitor)
signal-integrity model 293D476X0004C2
pins: 1, 2
1 alternate drawing of the same symbol

## 293D477X0004D2
designator C?
Tantamount Commercial, Surface Mount Solid Tantalum Chip Capacitor: 470uF, 20% Tolerance, 4 WVDC @ +85°C, Surge = 5.2V; Note: See Data Sheet for full range of components; Published: 19-Mar-2004; DatasheetDocument: 05-Feb-2003; PackageReference: 7343; Publisher: Altium Limited; Code_JEITA: 7343; ComponentLink1Description: Manufacturer Link; ComponentLink1URL: http://www.vishay.com/; ComponentLink2Description: Datasheet; ComponentLink2URL: http://www.vishay.com/docs/40002/293d.pdf; Value: 470uF
footprint 7343 (Capacitor, SM Tantalum; Body 7.3 x 4.3 mm (LxW typ))
simulation model CAP (Capacitor)
signal-integrity model 293D477X0004D2
pins: 1, 2
1 alternate drawing of the same symbol

## 293D685X0004A2
designator C?
Tantamount Commercial, Surface Mount Solid Tantalum Chip Capacitor: 6.8uF, 20% Tolerance, 4 WVDC @ +85°C, Surge = 5.2V; Note: See Data Sheet for full range of components; Published: 19-Mar-2004; DatasheetDocument: 05-Feb-2003; PackageReference: 3216; Publisher: Altium Limited; Code_JEITA: 3216; ComponentLink1Description: Manufacturer Link; ComponentLink1URL: http://www.vishay.com/; ComponentLink2Description: Datasheet; ComponentLink2URL: http://www.vishay.com/docs/40002/293d.pdf; Value: 6.8uF
footprint 3216 (Capacitor, SM Tantalum; Body 3.2 x 1.6 mm (LxW typ))
simulation model CAP (Capacitor)
signal-integrity model 293D685X0004A2
pins: 1, 2
1 alternate drawing of the same symbol

## 293D686X0004B2
designator C?
Tantamount Commercial, Surface Mount Solid Tantalum Chip Capacitor: 68uF, 20% Tolerance, 4 WVDC @ +85°C, Surge = 5.2V; Note: See Data Sheet for full range of components; Published: 19-Mar-2004; DatasheetDocument: 05-Feb-2003; PackageReference: 3528; Publisher: Altium Limited; Code_JEITA: 3528; ComponentLink1Description: Manufacturer Link; ComponentLink1URL: http://www.vishay.com/; ComponentLink2Description: Datasheet; ComponentLink2URL: http://www.vishay.com/docs/40002/293d.pdf; Value: 68uF
footprint 3528 (Capacitor, SM Tantalum; Body 3.5 x 2.8 mm (LxW typ))
simulation model CAP (Capacitor)
signal-integrity model 293D686X0004B2
pins: 1, 2
1 alternate drawing of the same symbol

## 293D686X0004C2
designator C?
Tantamount Commercial, Surface Mount Solid Tantalum Chip Capacitor: 68uF, 20% Tolerance, 4 WVDC @ +85°C, Surge = 5.2V; Note: See Data Sheet for full range of components; Published: 19-Mar-2004; DatasheetDocument: 05-Feb-2003; PackageReference: 6032; Publisher: Altium Limited; Code_JEITA: 6032; ComponentLink1Description: Manufacturer Link; ComponentLink1URL: http://www.vishay.com/; ComponentLink2Description: Datasheet; ComponentLink2URL: http://www.vishay.com/docs/40002/293d.pdf; Value: 68uF
footprint 6032 (Capacitor, SM Tantalum; Body 6.0 x 3.2 mm (LxW typ))
simulation model CAP (Capacitor)
signal-integrity model 293D686X0004C2
pins: 1, 2
1 alternate drawing of the same symbol

## 293D686X0004D2
designator C?
Tantamount Commercial, Surface Mount Solid Tantalum Chip Capacitor: 68uF, 20% Tolerance, 4 WVDC @ +85°C, Surge = 5.2V; Note: See Data Sheet for full range of components; Published: 19-Mar-2004; DatasheetDocument: 05-Feb-2003; PackageReference: 7343; Publisher: Altium Limited; Code_JEITA: 7343; ComponentLink1Description: Manufacturer Link; ComponentLink1URL: http://www.vishay.com/; ComponentLink2Description: Datasheet; ComponentLink2URL: http://www.vishay.com/docs/40002/293d.pdf; Value: 68uF
footprint 7343 (Capacitor, SM Tantalum; Body 7.3 x 4.3 mm (LxW typ))
simulation model CAP (Capacitor)
signal-integrity model 293D686X0004D2
pins: 1, 2
1 alternate drawing of the same symbol

## 593D105X0020A2
designator C?
Tantamount Commercial, Surface Mount Solid Tantalum Chip Capacitor for Switch Mode Power Supplies and Converters: 1.0uF, 20% Tolerance, 20 WVDC @ +85°C, Surge = 26V; Note: See Data Sheet for full range of components; Published: 19-Mar-2004; DatasheetDocument: 04-Mar-2003; PackageReference: 3216; Publisher: Altium Limited; Code_JEITA: 3216; ComponentLink1Description: Manufacturer Link; ComponentLink1URL: http://www.vishay.com/; ComponentLink2Description: Datasheet; ComponentLink2URL: http://www.vishay.com/docs/40005/593.pdf; Value: 1.0uF
footprint 3216 (Capacitor, SM Tantalum; Body 3.2 x 1.6 mm (LxW typ))
simulation model CAP (Capacitor)
signal-integrity model 593D105X0020A2
pins: 1, 2
1 alternate drawing of the same symbol

## 593D106X0020B2
designator C?
Tantamount Commercial, Surface Mount Solid Tantalum Chip Capacitor for Switch Mode Power Supplies and Converters: 10uF, 20% Tolerance, 20 WVDC @ +85°C, Surge = 26V; Note: See Data Sheet for full range of components; Published: 19-Mar-2004; DatasheetDocument: 04-Mar-2003; PackageReference: 3528; Publisher: Altium Limited; Code_JEITA: 3528; ComponentLink1Description: Manufacturer Link; ComponentLink1URL: http://www.vishay.com/; ComponentLink2Description: Datasheet; ComponentLink2URL: http://www.vishay.com/docs/40005/593.pdf; Value: 10uF
footprint 3528 (Capacitor, SM Tantalum; Body 3.5 x 2.8 mm (LxW typ))
simulation model CAP (Capacitor)
signal-integrity model 593D106X0020B2
pins: 1, 2
1 alternate drawing of the same symbol

## 593D106X0020C2
designator C?
Tantamount Commercial, Surface Mount Solid Tantalum Chip Capacitor for Switch Mode Power Supplies and Converters: 10uF, 20% Tolerance, 20 WVDC @ +85°C, Surge = 26V; Note: See Data Sheet for full range of components; Published: 19-Mar-2004; DatasheetDocument: 04-Mar-2003; PackageReference: 6032; Publisher: Altium Limited; Code_JEITA: 6032; ComponentLink1Description: Manufacturer Link; ComponentLink1URL: http://www.vishay.com/; ComponentLink2Description: Datasheet; ComponentLink2URL: http://www.vishay.com/docs/40005/593.pdf; Value: 10uF
footprint 6032 (Capacitor, SM Tantalum; Body 6.0 x 3.2 mm (LxW typ))
simulation model CAP (Capacitor)
signal-integrity model 593D106X0020C2
pins: 1, 2
1 alternate drawing of the same symbol

## 593D107X0020E2
designator C?
Tantamount Commercial, Surface Mount Solid Tantalum Chip Capacitor for Switch Mode Power Supplies and Converters: 100uF, 20% Tolerance, 20 WVDC @ +85°C, Surge = 26V; Note: See Data Sheet for full range of components; Published: 19-Mar-2004; DatasheetDocument: 04-Mar-2003; PackageReference: 7343H; Publisher: Altium Limited; Code_JEITA: 7343H; ComponentLink1Description: Manufacturer Link; ComponentLink1URL: http://www.vishay.com/; ComponentLink2Description: Datasheet; ComponentLink2URL: http://www.vishay.com/docs/40005/593.pdf; Value: 100uF
footprint 7343H (Capacitor, SM Tantalum; Body 7.3 x 4.3 mm (LxW typ))
simulation model CAP (Capacitor)
signal-integrity model 593D107X0020E2
pins: 1, 2
1 alternate drawing of the same symbol

## 593D156X0020B2
designator C?
Tantamount Commercial, Surface Mount Solid Tantalum Chip Capacitor for Switch Mode Power Supplies and Converters: 15uF, 20% Tolerance, 20 WVDC @ +85°C, Surge = 26V; Note: See Data Sheet for full range of components; Published: 19-Mar-2004; DatasheetDocument: 04-Mar-2003; PackageReference: 3528; Publisher: Altium Limited; Code_JEITA: 3528; ComponentLink1Description: Manufacturer Link; ComponentLink1URL: http://www.vishay.com/; ComponentLink2Description: Datasheet; ComponentLink2URL: http://www.vishay.com/docs/40005/593.pdf; Value: 15uF
footprint 3528 (Capacitor, SM Tantalum; Body 3.5 x 2.8 mm (LxW typ))
simulation model CAP (Capacitor)
signal-integrity model 593D156X0020B2
pins: 1, 2
1 alternate drawing of the same symbol

## 593D156X0020C2
designator C?
Tantamount Commercial, Surface Mount Solid Tantalum Chip Capacitor for Switch Mode Power Supplies and Converters: 15uF, 20% Tolerance, 20 WVDC @ +85°C, Surge = 26V; Note: See Data Sheet for full range of components; Published: 19-Mar-2004; DatasheetDocument: 04-Mar-2003; PackageReference: 6032; Publisher: Altium Limited; Code_JEITA: 6032; ComponentLink1Description: Manufacturer Link; ComponentLink1URL: http://www.vishay.com/; ComponentLink2Description: Datasheet; ComponentLink2URL: http://www.vishay.com/docs/40005/593.pdf; Value: 15uF
footprint 6032 (Capacitor, SM Tantalum; Body 6.0 x 3.2 mm (LxW typ))
simulation model CAP (Capacitor)
signal-integrity model 593D156X0020C2
pins: 1, 2
1 alternate drawing of the same symbol

## 593D225X0020A2
designator C?
Tantamount Commercial, Surface Mount Solid Tantalum Chip Capacitor for Switch Mode Power Supplies and Converters: 2.2uF, 20% Tolerance, 20 WVDC @ +85°C, Surge = 26V; Note: See Data Sheet for full range of components; Published: 19-Mar-2004; DatasheetDocument: 04-Mar-2003; PackageReference: 3216; Publisher: Altium Limited; Code_JEITA: 3216; ComponentLink1Description: Manufacturer Link; ComponentLink1URL: http://www.vishay.com/; ComponentLink2Description: Datasheet; ComponentLink2URL: http://www.vishay.com/docs/40005/593.pdf; Value: 2.2uF
footprint 3216 (Capacitor, SM Tantalum; Body 3.2 x 1.6 mm (LxW typ))
simulation model CAP (Capacitor)
signal-integrity model 593D225X0020A2
pins: 1, 2
1 alternate drawing of the same symbol